# Altium footprint library WL-SFRW.PcbLib: 3 footprints
Each footprint in its own frame and in the unit in brackets; x right, y up, seen from the top. Pads: shape width x height; smd on the part's side, far side on the other; paste and mask are expansions set on the pad; w line width, h text height; cw(c..) or ccw(c..) is an arc to the next point about the centre after c.
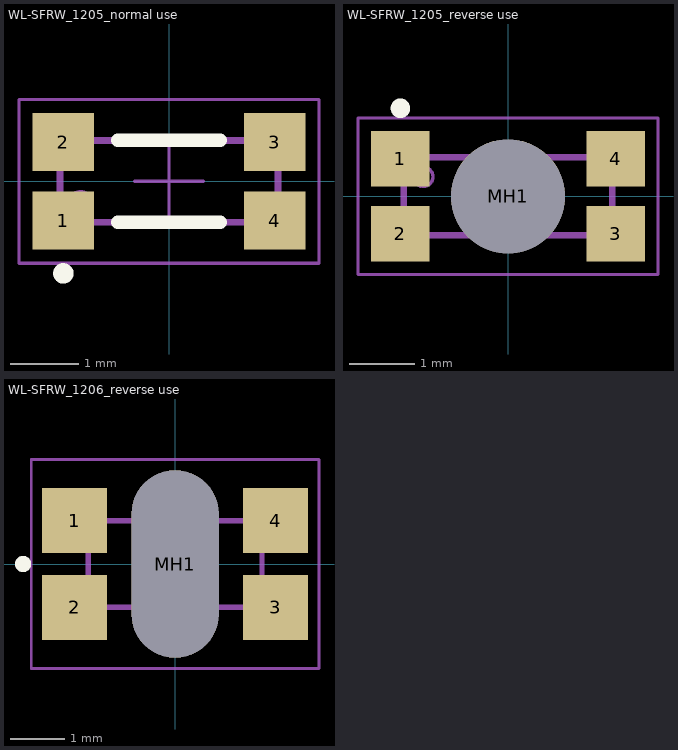
[diagram p0: the footprints below, top view; thin cyan lines are the x and y axes]

## WL-SFRW_1205_normal use [mm] "SMD Full-color Reverse mount LED, body 3.2x1.2mm"
height 1.25
pads (4):
  rect 0.9x0.85 smd: 1(-1.55,-0.575) 2(-1.55,0.575) 3(1.55,0.575) 4(1.55,-0.575)
Top Overlay:
  circle w0.15: c-1.55,-1.35 r0.075
  lines w0.2: -0.75,-0.6 0.75,-0.6 ; -0.75,0.6 0.75,0.6
Top Designator:
  text ".Designator" at -3.499,-0.233 h0.7
Top Component Outline:
  circle w0.05: c-1.3,-0.3 r0.15
  lines w0.1: -1.6,-0.6 -1.6,0.6 1.6,0.6 1.6,-0.6 -1.6,-0.6
Top Courtyard:
  lines w0.05: -0.5,0 0.5,0 ; 0,-0.5 0,0.5 ; -2.2,-1.2 -2.2,1.2 2.2,1.2 2.2,-1.2 -2.2,-1.2
3D body "156125M173000.stp": height 0.8, standoff 0, extent -1.6,-0.6 1.6,0.6

## WL-SFRW_1205_reverse use [mm] "SMD Full-color Reverse mount LED, body 3.2x1.2mm"
height 0.28
pads (5):
  rect 0.9x0.85 smd: 1(-1.65,0.575) 2(-1.65,-0.575) 3(1.65,-0.575) 4(1.65,0.575)
  round 1.75 hole 1.75 unplated: MH1(0,0)
Top Overlay:
  circle w0.15: c-1.65,1.35 r0.075
Top Designator:
  text ".Designator" at -3.499,-0.233 h0.7
Top Component Outline:
  circle w0.05: c-1.3,0.3 r0.15
  lines w0.1: -1.6,-0.6 1.6,-0.6 1.6,0.6 -1.6,0.6 -1.6,-0.6
Top Courtyard:
  lines w0.05: -0.5,0 0.5,0 ; 0,-0.5 0,0.5 ; -2.3,-1.2 2.3,-1.2 2.3,1.2 -2.3,1.2 -2.3,-1.2
3D body "156125M173000.stp": height 0.28, standoff -0.52, extent -1.6,-0.6 1.6,0.6

## WL-SFRW_1206_reverse use [mm] "SMD Full-color Reverse mount LED, body 3.2x1.6mm"
height 1.25
pads (5):
  rect 1.2x1.2 smd: 1(-1.85,0.8) 2(-1.85,-0.8) 3(1.85,-0.8) 4(1.85,0.8)
  oval 1.6x3.45 hole 1.6 slot 3.45 at 90 deg unplated: MH1(0,0)
Top Overlay:
  circle w0.15: c-2.8,0 r0.075
Top Designator:
  text ".Designator" at -3.999,-0.267 h0.8
Top Component Outline:
  lines w0.1: -1.6,-0.8 -1.6,0.8 1.6,0.8 1.6,-0.8 -1.6,-0.8
Top Courtyard:
  lines w0.05: -0.5,0 0.5,0 ; 0,-0.5 0,0.5 ; -2.65,-1.925 -2.65,1.925 2.65,1.925 2.65,-1.925 -2.65,-1.925
3D body "156120M173000.stp": height 0.28, standoff -0.82, extent -1.6,-0.8 1.6,0.8